# Altium schematic symbol library IMU LSM6DSLTR.Schlib: 1 symbol
Pins are listed as number, name and electrical type; pins without a type are passive.

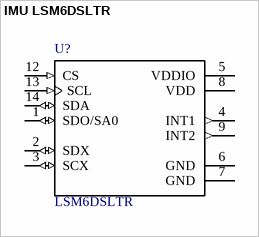
[diagram p0: symbol IMU LSM6DSLTR]

## IMU LSM6DSLTR
designator U?, comment LSM6DSLTR
IMU ACCEL/GYRO I2C/SPI 14LGA
pins: 1 SDO/SA0 (io), 2 SDX (io), 3 SCX (io), 4 INT1 (out), 5 VDDIO (power), 6 GND (power), 7 GND (power), 8 VDD (power), 9 INT2 (out), 12 CS (in), 13 SCL (in), 14 SDA (io)